# Altium schematic symbol library DEMO.SchLib: 4 symbols
Pins are listed as number, name and electrical type; pins without a type are passive.

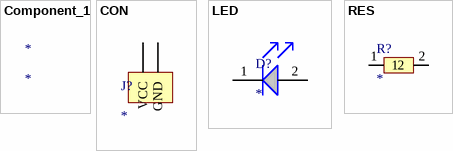
[diagram p0: symbols Component_1 to RES]

## Component_1
designator *

## CON
designator J?
footprint CON
pins: 1 VCC, 2 GND

## LED
designator D?
footprint LED_0603
pins: 1, 2

## RES
designator R?
footprint RES_0603
pins: 1, 2